# Altium footprint library aiskylab-14Connectors-01FFC-FPC.PcbLib: 118 footprints (part 2 of 8)
Each footprint in its own frame and in the unit in brackets; x right, y up, seen from the top. Pads: shape width x height; smd on the part's side, far side on the other; paste and mask are expansions set on the pad; w line width, h text height; cw(c..) or ccw(c..) is an arc to the next point about the centre after c.
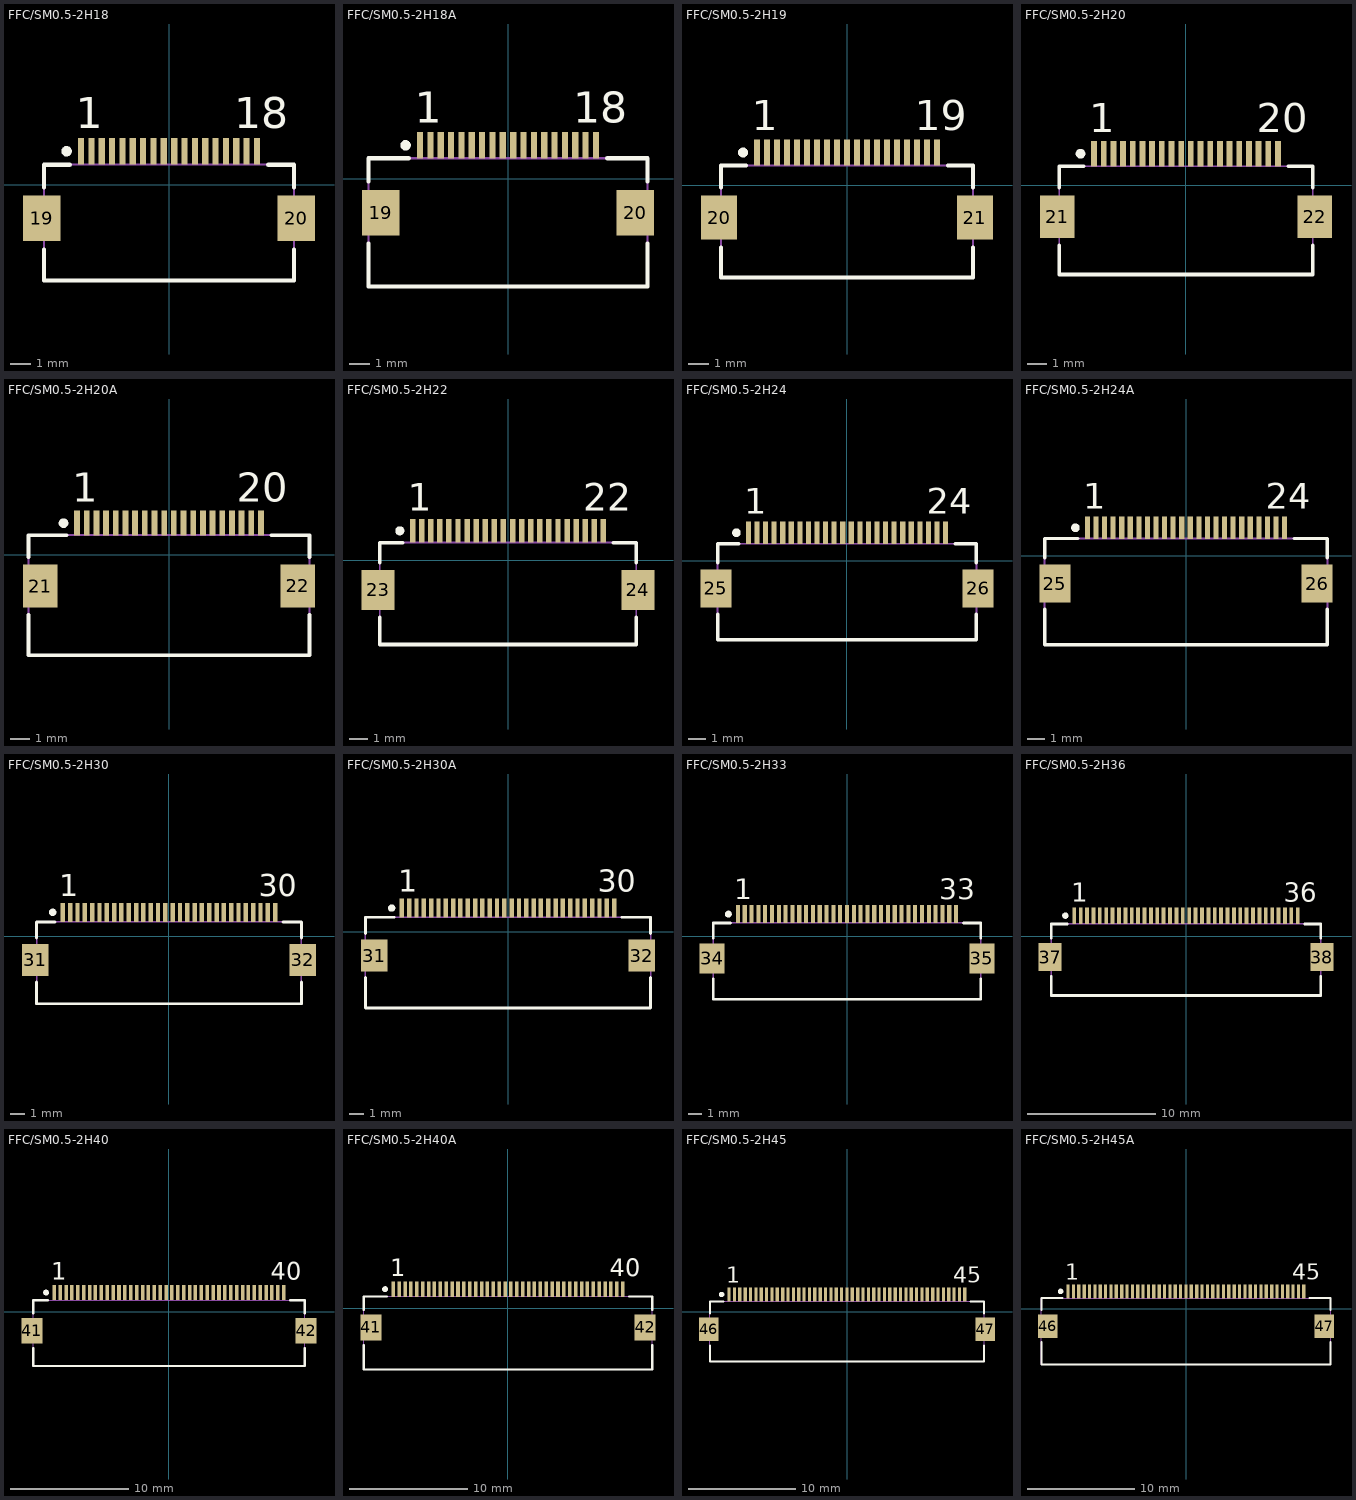
[diagram p1: the footprints below, top view; thin cyan lines are the x and y axes]

## FFC/SM0.5-2H18 [mm] "Connector; FH12 Series; 18 Position; 0.5mm Spaced Bottom Contact"
height 2
pads (20):
  rect 0.3x1.3 smd: 1(-4.25,1.625) 2(-3.75,1.625) 3(-3.25,1.625) 4(-2.75,1.625) 5(-2.25,1.625) 6(-1.75,1.625) 7(-1.25,1.625) 8(-0.75,1.625) 9(-0.25,1.625) 10(0.25,1.625) 11(0.75,1.625) 12(1.25,1.625) 13(1.75,1.625) 14(2.25,1.625) 15(2.75,1.625) 16(3.25,1.625) 17(3.75,1.625) 18(4.25,1.625)
  rect 1.8x2.2 smd: 19(-6.15,-1.625) 20(6.15,-1.625)
Top Overlay:
  circle w0.25: c-4.95,1.625 r0.125
  lines w0.2: -6.05,-3.125 -6.05,-4.625 6.05,-4.625 6.05,-3.125 ; -6.05,-0.125 -6.05,0.975 -4.8,0.975 ; 4.8,0.975 6.05,0.975 6.05,-0.125
  text "1" at -4.5,2.725 h1.5
  text "18" at 3.15,2.725 h1.5
Bottom Value:
  lines w0.1: -6.05,-4.625 -6.05,0.975 6.05,0.975 6.05,-4.625 -6.05,-4.625

## FFC/SM0.5-2H18A [mm] "Connector; FH12 Series; 18 Position; 0.5mm Spaced Top Contact"
height 2
pads (20):
  rect 0.3x1.3 smd: 1(-4.25,1.625) 2(-3.75,1.625) 3(-3.25,1.625) 4(-2.75,1.625) 5(-2.25,1.625) 6(-1.75,1.625) 7(-1.25,1.625) 8(-0.75,1.625) 9(-0.25,1.625) 10(0.25,1.625) 11(0.75,1.625) 12(1.25,1.625) 13(1.75,1.625) 14(2.25,1.625) 15(2.75,1.625) 16(3.25,1.625) 17(3.75,1.625) 18(4.25,1.625)
  rect 1.8x2.2 smd: 19(-6.15,-1.625) 20(6.15,-1.625)
Top Overlay:
  circle w0.25: c-4.95,1.625 r0.125
  lines w0.2: -6.75,-3.125 -6.75,-5.2 6.75,-5.2 6.75,-3.125 ; -6.75,-0.125 -6.75,1 -4.8,1 ; 4.8,1 6.75,1 6.75,-0.125
  text "1" at -4.5,2.725 h1.5
  text "18" at 3.15,2.725 h1.5
Bottom Value:
  lines w0.1: -6.75,-5.2 -6.75,1 6.75,1 6.75,-5.2 -6.75,-5.2

## FFC/SM0.5-2H19 [mm] "Connector; FH12 Series; 19 Position; 0.5mm Spaced Bottom Contact"
height 2
pads (21):
  rect 0.3x1.3 smd: 1(-4.5,1.625) 2(-4,1.625) 3(-3.5,1.625) 4(-3,1.625) 5(-2.5,1.625) 6(-2,1.625) 7(-1.5,1.625) 8(-1,1.625) 9(-0.5,1.625) 10(0,1.625) 11(0.5,1.625) 12(1,1.625) 13(1.5,1.625) 14(2,1.625) 15(2.5,1.625) 16(3,1.625) 17(3.5,1.625) 18(4,1.625) 19(4.5,1.625)
  rect 1.8x2.2 smd: 20(-6.4,-1.625) 21(6.4,-1.625)
Top Overlay:
  circle w0.25: c-5.2,1.625 r0.125
  lines w0.2: -6.3,-3.125 -6.3,-4.625 6.3,-4.625 6.3,-3.125 ; -6.3,-0.125 -6.3,0.975 -5.05,0.975 ; 5.05,0.975 6.3,0.975 6.3,-0.125
  text "19" at 3.4,2.725 h1.5
  text "1" at -4.75,2.725 h1.5
Bottom Value:
  lines w0.1: -6.3,-4.625 -6.3,0.975 6.3,0.975 6.3,-4.625 -6.3,-4.625

## FFC/SM0.5-2H20 [mm] "Connector; FH12 Series; 20 Position; 0.5mm Spaced Bottom Contact"
height 2
pads (22):
  rect 0.3x1.3 smd: 1(-4.75,1.625) 2(-4.25,1.625) 3(-3.75,1.625) 4(-3.25,1.625) 5(-2.75,1.625) 6(-2.25,1.625) 7(-1.75,1.625) 8(-1.25,1.625) 9(-0.75,1.625) 10(-0.25,1.625) 11(0.25,1.625) 12(0.75,1.625) 13(1.25,1.625) 14(1.75,1.625) 15(2.25,1.625) 16(2.75,1.625) 17(3.25,1.625) 18(3.75,1.625) 19(4.25,1.625) 20(4.75,1.625)
  rect 1.8x2.2 smd: 21(-6.65,-1.625) 22(6.65,-1.623)
Top Overlay:
  circle w0.25: c-5.45,1.625 r0.125
  lines w0.2: -6.55,-3.123 -6.55,-4.623 6.55,-4.623 6.55,-3.123 ; -6.55,-0.123 -6.55,0.977 -5.3,0.977 ; 5.3,0.977 6.55,0.977 6.55,-0.123
  text "1" at -5,2.725 h1.5
  text "20" at 3.65,2.725 h1.5
Bottom Value:
  lines w0.1: -6.55,-4.623 -6.55,0.977 6.55,0.977 6.55,-4.623 -6.55,-4.623

## FFC/SM0.5-2H20A [mm] "Connector; FH12 Series; 20 Position; 0.5mm Spaced Top Contact"
height 2
pads (22):
  rect 0.3x1.3 smd: 1(-4.75,1.625) 2(-4.25,1.625) 3(-3.75,1.625) 4(-3.25,1.625) 5(-2.75,1.625) 6(-2.25,1.625) 7(-1.75,1.625) 8(-1.25,1.625) 9(-0.75,1.625) 10(-0.25,1.625) 11(0.25,1.625) 12(0.75,1.625) 13(1.25,1.625) 14(1.75,1.625) 15(2.25,1.625) 16(2.75,1.625) 17(3.25,1.625) 18(3.75,1.625) 19(4.25,1.625) 20(4.75,1.625)
  rect 1.8x2.2 smd: 21(-6.65,-1.625) 22(6.65,-1.623)
Top Overlay:
  circle w0.25: c-5.45,1.625 r0.125
  lines w0.2: -7.25,-3.123 -7.25,-5.198 7.25,-5.198 7.25,-3.123 ; -7.25,-0.123 -7.25,1.002 -5.3,1.002 ; 5.3,1.002 7.25,1.002 7.25,-0.123
  text "20" at 3.5,2.725 h1.5
  text "1" at -5,2.725 h1.5
Bottom Value:
  lines w0.1: -7.25,-5.198 -7.25,1.002 7.25,1.002 7.25,-5.198 -7.25,-5.198

## FFC/SM0.5-2H22 [mm] "Connector; FH12 Series; 22 Position; 0.5mm Spaced Bottom Contact"
height 2
pads (24):
  rect 0.3x1.3 smd: 1(-5.25,1.625) 2(-4.75,1.625) 3(-4.25,1.625) 4(-3.75,1.625) 5(-3.25,1.625) 6(-2.75,1.625) 7(-2.25,1.625) 8(-1.75,1.625) 9(-1.25,1.625) 10(-0.75,1.625) 11(-0.25,1.625) 12(0.25,1.625) 13(0.75,1.625) 14(1.25,1.625) 15(1.75,1.625) 16(2.25,1.625) 17(2.75,1.625) 18(3.25,1.625) 19(3.75,1.625) 20(4.25,1.625) 21(4.75,1.625) 22(5.25,1.625)
  rect 1.8x2.2 smd: 23(-7.15,-1.625) 24(7.15,-1.625)
Top Overlay:
  circle w0.25: c-5.95,1.625 r0.125
  lines w0.2: -7.05,-3.125 -7.05,-4.625 7.05,-4.625 7.05,-3.125 ; -7.05,-0.125 -7.05,0.975 -5.8,0.975 ; 5.8,0.975 7.05,0.975 7.05,-0.125
  text "1" at -5.5,2.725 h1.5
  text "22" at 4.15,2.725 h1.5
Bottom Value:
  lines w0.1: -7.05,-4.625 -7.05,0.975 7.05,0.975 7.05,-4.625 -7.05,-4.625

## FFC/SM0.5-2H24 [mm] "Connector; FH12 Series; 24 Position; 0.5mm Spaced Bottom Contact"
height 2
pads (26):
  rect 0.3x1.3 smd: 1(-5.75,1.625) 2(-5.25,1.625) 3(-4.75,1.625) 4(-4.25,1.625) 5(-3.75,1.625) 6(-3.25,1.625) 7(-2.75,1.625) 8(-2.25,1.625) 9(-1.75,1.625) 10(-1.25,1.625) 11(-0.75,1.625) 12(-0.25,1.625) 13(0.25,1.625) 14(0.75,1.625) 15(1.25,1.625) 16(1.75,1.625) 17(2.25,1.625) 18(2.75,1.625) 19(3.25,1.625) 20(3.75,1.625) 21(4.25,1.625) 22(4.75,1.625) 23(5.25,1.625) 24(5.75,1.625)
  rect 1.8x2.2 smd: 25(-7.65,-1.625) 26(7.65,-1.625)
Top Overlay:
  circle w0.25: c-6.45,1.625 r0.125
  lines w0.2: -7.55,-3.125 -7.55,-4.625 7.55,-4.625 7.55,-3.125 ; -7.55,-0.125 -7.55,0.975 -6.3,0.975 ; 6.3,0.975 7.55,0.975 7.55,-0.125
  text "24" at 4.65,2.725 h1.5
  text "1" at -6,2.725 h1.5
Bottom Value:
  lines w0.1: -7.55,-4.625 -7.55,0.975 7.55,0.975 7.55,-4.625 -7.55,-4.625

## FFC/SM0.5-2H24A [mm] "Connector; FH12 Series; 24 Position; 0.5mm Spaced Top Contact"
height 2
pads (26):
  rect 0.3x1.3 smd: 1(-5.75,1.625) 2(-5.25,1.625) 3(-4.75,1.625) 4(-4.25,1.625) 5(-3.75,1.625) 6(-3.25,1.625) 7(-2.75,1.625) 8(-2.25,1.625) 9(-1.75,1.625) 10(-1.25,1.625) 11(-0.75,1.625) 12(-0.25,1.625) 13(0.25,1.625) 14(0.75,1.625) 15(1.25,1.625) 16(1.75,1.625) 17(2.25,1.625) 18(2.75,1.625) 19(3.25,1.625) 20(3.75,1.625) 21(4.25,1.625) 22(4.75,1.625) 23(5.25,1.625) 24(5.75,1.625)
  rect 1.8x2.2 smd: 25(-7.65,-1.625) 26(7.65,-1.625)
Top Overlay:
  circle w0.25: c-6.45,1.625 r0.125
  lines w0.2: -8.25,-3.125 -8.25,-5.2 8.25,-5.2 8.25,-3.125 ; -8.25,-0.125 -8.25,1 -6.3,1 ; 6.3,1 8.25,1 8.25,-0.125
  text "24" at 4.65,2.725 h1.5
  text "1" at -6,2.725 h1.5
Bottom Value:
  lines w0.1: -8.25,-5.2 -8.25,1 8.25,1 8.25,-5.2 -8.25,-5.2

## FFC/SM0.5-2H30 [mm] "Connector; FH12 Series; 30 Position; 0.5mm Spaced Bottom Contact"
height 2
pads (32):
  rect 0.3x1.3 smd: 1(-7.25,1.625) 2(-6.75,1.625) 3(-6.25,1.625) 4(-5.75,1.625) 5(-5.25,1.625) 6(-4.75,1.625) 7(-4.25,1.625) 8(-3.75,1.625) 9(-3.25,1.625) 10(-2.75,1.625) 11(-2.25,1.625) 12(-1.75,1.625) 13(-1.25,1.625) 14(-0.75,1.625) 15(-0.25,1.625) 16(0.25,1.625) 17(0.75,1.625) 18(1.25,1.625) 19(1.75,1.625) 20(2.25,1.625) 21(2.75,1.625) 22(3.25,1.625) 23(3.75,1.625) 24(4.25,1.625) 25(4.75,1.625) 26(5.25,1.625) 27(5.75,1.625) 28(6.25,1.625) 29(6.75,1.625) 30(7.25,1.625)
  rect 1.8x2.2 smd: 31(-9.15,-1.625) 32(9.15,-1.625)
Top Overlay:
  circle w0.25: c-7.95,1.625 r0.125
  lines w0.2: -9.05,-3.125 -9.05,-4.625 9.05,-4.625 9.05,-3.125 ; -9.05,-0.125 -9.05,0.975 -7.8,0.975 ; 7.8,0.975 9.05,0.975 9.05,-0.125
  text "1" at -7.5,2.725 h1.5
  text "30" at 6.15,2.725 h1.5
Bottom Value:
  lines w0.1: -9.05,-4.625 -9.05,0.975 9.05,0.975 9.05,-4.625 -9.05,-4.625

## FFC/SM0.5-2H30A [mm] "Connector; FH12 Series; 30 Position; 0.5mm Spaced Top Contact"
height 2
pads (32):
  rect 0.3x1.3 smd: 1(-7.25,1.625) 2(-6.75,1.625) 3(-6.25,1.625) 4(-5.75,1.625) 5(-5.25,1.625) 6(-4.75,1.625) 7(-4.25,1.625) 8(-3.75,1.625) 9(-3.25,1.625) 10(-2.75,1.625) 11(-2.25,1.625) 12(-1.75,1.625) 13(-1.25,1.625) 14(-0.75,1.625) 15(-0.25,1.625) 16(0.25,1.625) 17(0.75,1.625) 18(1.25,1.625) 19(1.75,1.625) 20(2.25,1.625) 21(2.75,1.625) 22(3.25,1.625) 23(3.75,1.625) 24(4.25,1.625) 25(4.75,1.625) 26(5.25,1.625) 27(5.75,1.625) 28(6.25,1.625) 29(6.75,1.625) 30(7.25,1.625)
  rect 1.8x2.2 smd: 31(-9.15,-1.625) 32(9.15,-1.625)
Top Overlay:
  circle w0.25: c-7.95,1.625 r0.125
  lines w0.2: -9.75,-3.125 -9.75,-5.2 9.75,-5.2 9.75,-3.125 ; -9.75,-0.125 -9.75,1 -7.8,1 ; 7.8,1 9.75,1 9.75,-0.125
  text "1" at -7.5,2.725 h1.5
  text "30" at 6.15,2.725 h1.5
Bottom Value:
  lines w0.1: -9.75,-5.2 -9.75,1 9.75,1 9.75,-5.2 -9.75,-5.2

## FFC/SM0.5-2H33 [mm] "Connector; FH12 Series; 33 Position; 0.5mm Spaced Bottom Contact"
height 2
pads (35):
  rect 0.3x1.3 smd: 1(-8,1.625) 2(-7.5,1.625) 3(-7,1.625) 4(-6.5,1.625) 5(-6,1.625) 6(-5.5,1.625) 7(-5,1.625) 8(-4.5,1.625) 9(-4,1.625) 10(-3.5,1.625) 11(-3,1.625) 12(-2.5,1.625) 13(-2,1.625) 14(-1.5,1.625) 15(-1,1.625) 16(-0.5,1.625) 17(0,1.625) 18(0.5,1.625) 19(1,1.625) 20(1.5,1.625) 21(2,1.625) 22(2.5,1.625) 23(3,1.625) 24(3.5,1.625) 25(4,1.625) 26(4.5,1.625) 27(5,1.625) 28(5.5,1.625) 29(6,1.625) 30(6.5,1.625) 31(7,1.625) 32(7.5,1.625) 33(8,1.625)
  rect 1.8x2.2 smd: 34(-9.9,-1.625) 35(9.9,-1.625)
Top Overlay:
  circle w0.25: c-8.7,1.625 r0.125
  lines w0.2: -9.8,-3.125 -9.8,-4.625 9.8,-4.625 9.8,-3.125 ; -9.8,-0.125 -9.8,0.975 -8.55,0.975 ; 8.55,0.975 9.8,0.975 9.8,-0.125
  text "33" at 6.75,2.725 h1.5
  text "1" at -8.25,2.725 h1.5
Bottom Value:
  lines w0.1: -9.8,-4.625 -9.8,0.975 9.8,0.975 9.8,-4.625 -9.8,-4.625

## FFC/SM0.5-2H36 [mm] "Connector; FH12 Series; 36 Position; 0.5mm Spaced Bottom Contact"
height 2
pads (38):
  rect 0.3x1.3 smd: 1(-8.75,1.625) 2(-8.25,1.625) 3(-7.75,1.625) 4(-7.25,1.625) 5(-6.75,1.625) 6(-6.25,1.625) 7(-5.75,1.625) 8(-5.25,1.625) 9(-4.75,1.625) 10(-4.25,1.625) 11(-3.75,1.625) 12(-3.25,1.625) 13(-2.75,1.625) 14(-2.25,1.625) 15(-1.75,1.625) 16(-1.25,1.625) 17(-0.75,1.625) 18(-0.25,1.625) 19(0.25,1.625) 20(0.75,1.625) 21(1.25,1.625) 22(1.75,1.625) 23(2.25,1.625) 24(2.75,1.625) 25(3.25,1.625) 26(3.75,1.625) 27(4.25,1.625) 28(4.75,1.625) 29(5.25,1.625) 30(5.75,1.625) 31(6.25,1.625) 32(6.75,1.625) 33(7.25,1.625) 34(7.75,1.625) 35(8.25,1.625) 36(8.75,1.625)
  rect 1.8x2.2 smd: 37(-10.65,-1.625) 38(10.65,-1.625)
Top Overlay:
  circle w0.25: c-9.45,1.625 r0.125
  lines w0.2: -10.55,-3.125 -10.55,-4.625 10.55,-4.625 10.55,-3.125 ; -10.55,-0.125 -10.55,0.975 -9.3,0.975 ; 9.3,0.975 10.55,0.975 10.55,-0.125
  text "36" at 7.65,2.725 h1.5
  text "1" at -9,2.725 h1.5
Bottom Value:
  lines w0.1: -10.55,-4.625 -10.55,0.975 10.55,0.975 10.55,-4.625 -10.55,-4.625

## FFC/SM0.5-2H40 [mm] "Connector; FH12 Series; 40 Position; 0.5mm Spaced Bottom Contact"
height 2
pads (42):
  rect 0.3x1.3 smd: 1(-9.75,1.625) 2(-9.25,1.625) 3(-8.75,1.625) 4(-8.25,1.625) 5(-7.75,1.625) 6(-7.25,1.625) 7(-6.75,1.625) 8(-6.25,1.625) 9(-5.75,1.625) 10(-5.25,1.625) 11(-4.75,1.625) 12(-4.25,1.625) 13(-3.75,1.625) 14(-3.25,1.625) 15(-2.75,1.625) 16(-2.25,1.625) 17(-1.75,1.625) 18(-1.25,1.625) 19(-0.75,1.625) 20(-0.25,1.625) 21(0.25,1.625) 22(0.75,1.625) 23(1.25,1.625) 24(1.75,1.625) 25(2.25,1.625) 26(2.75,1.625) 27(3.25,1.625) 28(3.75,1.625) 29(4.25,1.625) 30(4.75,1.625) 31(5.25,1.625) 32(5.75,1.625) 33(6.25,1.625) 34(6.75,1.625) 35(7.25,1.625) 36(7.75,1.625) 37(8.25,1.625) 38(8.75,1.625) 39(9.25,1.625) 40(9.75,1.625)
  rect 1.8x2.2 smd: 41(-11.65,-1.625) 42(11.65,-1.625)
Top Overlay:
  circle w0.25: c-10.45,1.625 r0.125
  lines w0.2: -11.55,-3.125 -11.55,-4.625 11.55,-4.625 11.55,-3.125 ; -11.55,-0.125 -11.55,0.975 -10.3,0.975 ; 10.3,0.975 11.55,0.975 11.55,-0.125
  text "1" at -10,2.725 h1.5
  text "40" at 8.65,2.725 h1.5
Bottom Value:
  lines w0.1: -11.55,-4.625 -11.55,0.975 11.55,0.975 11.55,-4.625 -11.55,-4.625

## FFC/SM0.5-2H40A [mm] "Connector; FH12 Series; 40 Position; 0.5mm Spaced Top Contact"
height 2
pads (42):
  rect 0.3x1.3 smd: 1(-9.75,1.625) 2(-9.25,1.625) 3(-8.75,1.625) 4(-8.25,1.625) 5(-7.75,1.625) 6(-7.25,1.625) 7(-6.75,1.625) 8(-6.25,1.625) 9(-5.75,1.625) 10(-5.25,1.625) 11(-4.75,1.625) 12(-4.25,1.625) 13(-3.75,1.625) 14(-3.25,1.625) 15(-2.75,1.625) 16(-2.25,1.625) 17(-1.75,1.625) 18(-1.25,1.625) 19(-0.75,1.625) 20(-0.25,1.625) 21(0.25,1.625) 22(0.75,1.625) 23(1.25,1.625) 24(1.75,1.625) 25(2.25,1.625) 26(2.75,1.625) 27(3.25,1.625) 28(3.75,1.625) 29(4.25,1.625) 30(4.75,1.625) 31(5.25,1.625) 32(5.75,1.625) 33(6.25,1.625) 34(6.75,1.625) 35(7.25,1.625) 36(7.75,1.625) 37(8.25,1.625) 38(8.75,1.625) 39(9.25,1.625) 40(9.75,1.625)
  rect 1.8x2.2 smd: 41(-11.65,-1.625) 42(11.65,-1.625)
Top Overlay:
  circle w0.25: c-10.45,1.625 r0.125
  lines w0.2: -12.25,-3.125 -12.25,-5.2 12.25,-5.2 12.25,-3.125 ; -12.25,-0.125 -12.25,1 -10.3,1 ; 10.3,1 12.25,1 12.25,-0.125
  text "1" at -10,2.725 h1.5
  text "40" at 8.65,2.725 h1.5
Bottom Value:
  lines w0.1: -12.25,-5.2 12.25,-5.2 12.25,1 -12.25,1 -12.25,-5.2

## FFC/SM0.5-2H45 [mm] "Connector; FH12 Series; 45 Position; 0.5mm Spaced Bottom Contact"
height 2
pads (47):
  rect 0.3x1.3 smd: 1(-11,1.625) 2(-10.5,1.625) 3(-10,1.625) 4(-9.5,1.625) 5(-9,1.625) 6(-8.5,1.625) 7(-8,1.625) 8(-7.5,1.625) 9(-7,1.625) 10(-6.5,1.625) 11(-6,1.625) 12(-5.5,1.625) 13(-5,1.625) 14(-4.5,1.625) 15(-4,1.625) 16(-3.5,1.625) 17(-3,1.625) 18(-2.5,1.625) 19(-2,1.625) 20(-1.5,1.625) 21(-1,1.625) 22(-0.5,1.625) 23(0,1.625) 24(0.5,1.625) 25(1,1.625) 26(1.5,1.625) 27(2,1.625) 28(2.5,1.625) 29(3,1.625) 30(3.5,1.625) 31(4,1.625) 32(4.5,1.625) 33(5,1.625) 34(5.5,1.625) 35(6,1.625) 36(6.5,1.625) 37(7,1.625) 38(7.5,1.625) 39(8,1.625) 40(8.5,1.625) 41(9,1.625) 42(9.5,1.625) 43(10,1.625) 44(10.5,1.625) 45(11,1.625)
  rect 1.8x2.2 smd: 46(-12.9,-1.625) 47(12.9,-1.625)
Top Overlay:
  circle w0.25: c-11.7,1.625 r0.125
  lines w0.2: -12.8,-3.125 -12.8,-4.625 12.8,-4.625 12.8,-3.125 ; -12.8,-0.125 -12.8,0.975 -11.55,0.975 ; 11.55,0.975 12.8,0.975 12.8,-0.125
  text "45" at 9.9,2.725 h1.5
  text "1" at -11.25,2.725 h1.5
Bottom Value:
  lines w0.1: -12.8,-4.625 12.8,-4.625 12.8,0.975 -12.8,0.975 -12.8,-4.625

## FFC/SM0.5-2H45A [mm] "Connector; FH12 Series; 45 Position; 0.5mm Spaced Top Contact"
height 2
pads (47):
  rect 0.3x1.3 smd: 1(-11,1.625) 2(-10.5,1.625) 3(-10,1.625) 4(-9.5,1.625) 5(-9,1.625) 6(-8.5,1.625) 7(-8,1.625) 8(-7.5,1.625) 9(-7,1.625) 10(-6.5,1.625) 11(-6,1.625) 12(-5.5,1.625) 13(-5,1.625) 14(-4.5,1.625) 15(-4,1.625) 16(-3.5,1.625) 17(-3,1.625) 18(-2.5,1.625) 19(-2,1.625) 20(-1.5,1.625) 21(-1,1.625) 22(-0.5,1.625) 23(0,1.625) 24(0.5,1.625) 25(1,1.625) 26(1.5,1.625) 27(2,1.625) 28(2.5,1.625) 29(3,1.625) 30(3.5,1.625) 31(4,1.625) 32(4.5,1.625) 33(5,1.625) 34(5.5,1.625) 35(6,1.625) 36(6.5,1.625) 37(7,1.625) 38(7.5,1.625) 39(8,1.625) 40(8.5,1.625) 41(9,1.625) 42(9.5,1.625) 43(10,1.625) 44(10.5,1.625) 45(11,1.625)
  rect 1.8x2.2 smd: 46(-12.9,-1.625) 47(12.9,-1.625)
Top Overlay:
  circle w0.25: c-11.7,1.625 r0.125
  lines w0.2: -13.5,-3.125 -13.5,-5.2 13.5,-5.2 13.5,-3.125 ; -13.5,-0.125 -13.5,1 -11.55,1 ; 11.55,1 13.5,1 13.5,-0.125
  text "45" at 9.9,2.725 h1.5
  text "1" at -11.25,2.725 h1.5
Bottom Value:
  lines w0.1: -13.5,-5.2 -13.5,1 13.5,1 13.5,-5.2 -13.5,-5.2